# Altium integrated library MCP6002-E_SN.IntLib: 1 symbol
Pins are listed as number, name and electrical type; pins without a type are passive.

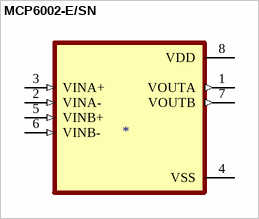
[diagram p0: symbol MCP6002-E/SN]

## MCP6002-E/SN
designator ?
General Purpose Amplifier 2 Circuit Rail-to-Rail 8-SOIC; MP: MCP6002-E/SN; MF: Microchip; Value: *; SnapEDA_Link: https://www.snapeda.com/parts/MCP6002-E/SN/Microchip/view-part/299798/?ref=snap; Availability: Unavailable; Package: SOIC-8 Microchip; Price: None
footprint SOIC127P599X175-8N
pins: 1 VOUTA (out), 2 VINA- (in), 3 VINA+ (in), 4 VSS (power), 5 VINB+ (in), 6 VINB- (in), 7 VOUTB (out), 8 VDD (power)